# EAGLE library part PINHD-2X17 (library SquantorConnectors)
PIN HEADER
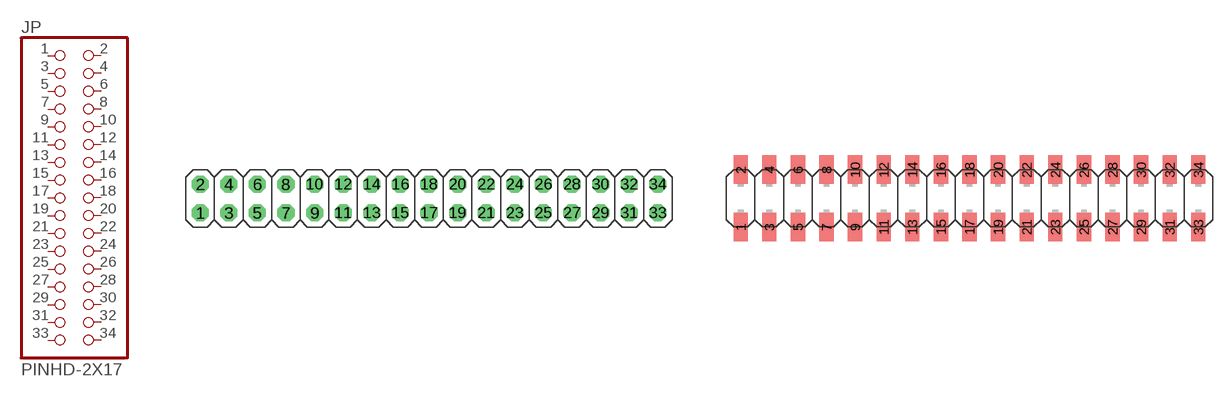
[diagram p39: symbol with the pads of 2X17; footprints 2X17, 2X17SMD]

Designator prefix JP

## PINHD-2X17TH_NORMAL  [2X17]
1  1  pas
2  2  pas
3  3  pas
4  4  pas
5  5  pas
6  6  pas
7  7  pas
8  8  pas
9  9  pas
10  10  pas
11  11  pas
12  12  pas
13  13  pas
14  14  pas
15  15  pas
16  16  pas
17  17  pas
18  18  pas
19  19  pas
20  20  pas
21  21  pas
22  22  pas
23  23  pas
24  24  pas
25  25  pas
26  26  pas
27  27  pas
28  28  pas
29  29  pas
30  30  pas
31  31  pas
32  32  pas
33  33  pas
34  34  pas

## PINHD-2X17SMD_FLAT  [2X17SMD]
Pads as for 2X17

## Footprint 2X17 (pad centres in mm)
PIN HEADER
drill 1.016 octagon: 1 -20.32,-1.27; 2 -20.32,1.27; 3 -17.78,-1.27; 4 -17.78,1.27; 5 -15.24,-1.27; 6 -15.24,1.27; 7 -12.7,-1.27; 8 -12.7,1.27; 9 -10.16,-1.27; 10 -10.16,1.27; 11 -7.62,-1.27; 12 -7.62,1.27; 13 -5.08,-1.27; 14 -5.08,1.27; 15 -2.54,-1.27; 16 -2.54,1.27; 17 0,-1.27; 18 0,1.27; 19 2.54,-1.27; 20 2.54,1.27; 21 5.08,-1.27; 22 5.08,1.27; 23 7.62,-1.27; 24 7.62,1.27; 25 10.16,-1.27; 26 10.16,1.27; 27 12.7,-1.27; 28 12.7,1.27; 29 15.24,-1.27; 30 15.24,1.27; 31 17.78,-1.27; 32 17.78,1.27; 33 20.32,-1.27; 34 20.32,1.27

## Footprint 2X17SMD (pad centres in mm)
smd 1.27 x 2.54: 1 -19.05,-2.54; 2 -19.05,2.54; 3 -16.51,-2.54; 4 -16.51,2.54; 5 -13.97,-2.54; 6 -13.97,2.54; 7 -11.43,-2.54; 8 -11.43,2.54; 9 -8.89,-2.54; 10 -8.89,2.54; 11 -6.35,-2.54; 12 -6.35,2.54; 13 -3.81,-2.54; 14 -3.81,2.54; 15 -1.27,-2.54; 16 -1.27,2.54; 17 1.27,-2.54; 18 1.27,2.54; 19 3.81,-2.54; 20 3.81,2.54; 21 6.35,-2.54; 22 6.35,2.54; 23 8.89,-2.54; 24 8.89,2.54; 25 11.43,-2.54; 26 11.43,2.54; 27 13.97,-2.54; 28 13.97,2.54; 29 16.51,-2.54; 30 16.51,2.54; 31 19.05,-2.54; 32 19.05,2.54; 33 21.59,-2.54; 34 21.59,2.54